# EAGLE library part 43841-0003 (library 43841-0003)
Modular Connectors / Ethernet Connectors MODJACK DUAL PORT SMT 50 SAU 8/8 Source: Datasheet <https://www.molex.com/pdm_docs/sd/438410003_sd.pdf>
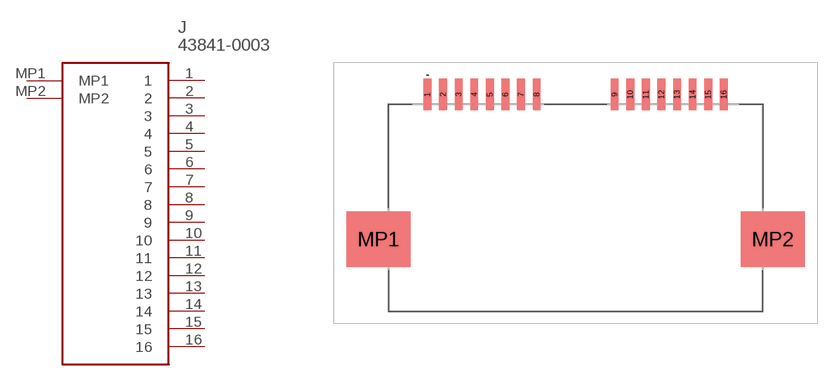
[diagram p0: symbol with the pads of 438410003; footprint 438410003]

Designator prefix J

## 43841-0003 (Description: Modular Connectors / Ethernet Connectors MODJACK DUAL PORT SMT 50 SAU 8/8; Height: 11.8mm; Manufacturer_Name: Molex; Manufacturer_Part_Number: 43841-0003; Mouser_Part_Number: 538-43841-0003; Mouser_Price-Stock: https://www.mouser.co.uk/ProductDetail/Molex/43841-0003?qs=H%2FGT2mb2V7ZTabM28CPAtQ%3D%3D)  [438410003]
1  1
2  2
3  3
4  4
5  5
6  6
7  7
8  8
9  9
10  10
11  11
12  12
13  13
14  14
15  15
16  16
MP1  MP1
MP2  MP2

## Footprint 438410003 (pad centres in mm)
43841-0003-2
smd 0.64 x 2.54: 1 -12.065,8.835; 2 -10.795,8.835; 3 -9.525,8.835; 4 -8.255,8.835; 5 -6.985,8.835; 6 -5.715,8.835; 7 -4.445,8.835; 8 -3.175,8.835; 9 3.175,8.835; 10 4.445,8.835; 11 5.715,8.835; 12 6.985,8.835; 13 8.255,8.835; 14 9.525,8.835; 15 10.795,8.835; 16 12.065,8.835
smd 5.21 x 4.52: MP1 -16.05,-2.96; MP2 16.05,-2.96